# Altium integrated library Maxim_Integrated.IntLib: 4 symbols
Pins are listed as number, name and electrical type; pins without a type are passive.

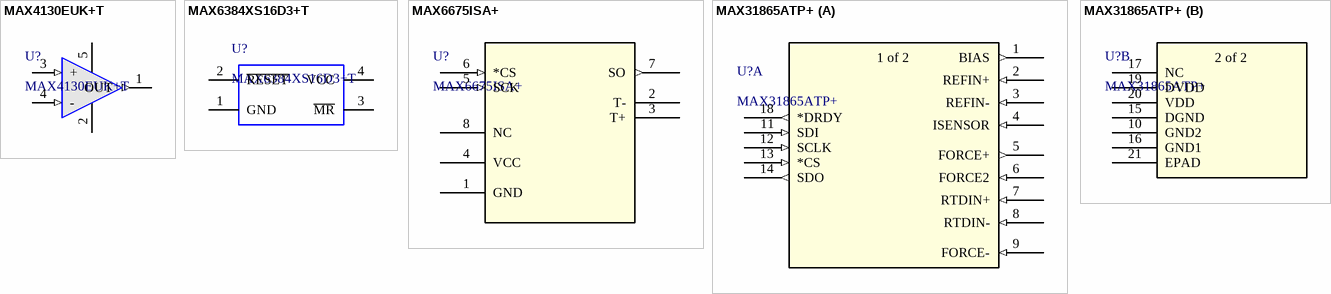
[diagram p0: symbols MAX4130EUK+T to MAX31865ATP+]

## MAX4130EUK+T
designator U?
Single/Dual/Quad, Wide-Bandwidth, Low-Power, / Single-Supply, Rail-to-Rail I/O Op Amps; SourceLibrary: Maxim_2014-06-20; Built_By: EMA_UL_Team; Vendor: Maxim Integrated Products; Revised By: Z_xiao; Manufacturer_Part_Number: MAX4130EUK+T; Copyright: Copyright (C) 2018 Accelerated Designs. All rights reserved; RefDes: RefDes; Type: DEV; ComponentLink1Description: Datasheet; ComponentLink1URL: https://datasheets.maximintegrated.com/en/ds/MAX4130-MAX4134.pdf
footprint 21-0057F_MXM
footprint 21-0057F_MXM-L
footprint 21-0057F_MXM-M
pins: 1 OUT (out), 2 VEE (power), 3 + (in), 4 - (in), 5 VCC (power)

## MAX6384XS16D3+T
designator U?
SC70/μDFN, Single/Dual Low-Voltage, / Low-Power μP Reset Circuits; Mfr_Name: Maxim Integrated Products; Revised By: Z_xiao; Copyright: Copyright (C) 2022 Ultra Librarian. All rights reserved.; Manufacturer_Part_Number: MAX6384XS16D3+T; RefDes: RefDes; Type: DEV; ComponentLink1Description: Datasheet; ComponentLink1URL: https://datasheets.maximintegrated.com/en/ds/MAX6381-MAX6390.pdf
footprint 21-0098_X4+1_MXM
footprint 21-0098_X4+1_MXM-L
footprint 21-0098_X4+1_MXM-M
pins: 1 GND, 2 ~{RESET}, 3 ~{MR}, 4 VCC

## MAX6675ISA+
designator U?
No Description Available; SourceLibrary: Maxim_2011-05-13; Built_By: EMA_UL_Team; Vendor: Maxim Integrated Products; Revised By: Z_xiao; Revision: 3; Manufacturer_Part_Number: MAX6675ISA+; Copyright: Copyright (C) 2018 Accelerated Designs. All rights reserved; RefDes: RefDes; Type: DEV; ComponentLink1Description: Datasheet; ComponentLink1URL: https://datasheets.maximintegrated.com/en/ds/MAX6675.pdf
footprint 21-0041B_8_MXM
footprint 21-0041B_8_MXM-L
footprint 21-0041B_8_MXM-M
pins: 1 GND (power), 2 T-, 3 T+, 4 VCC (power), 5 SCK (in), 6 *CS (in), 7 SO (out), 8 NC

## MAX31865ATP+
designator U?
RTD-to-Digital Converter; SourceLibrary: Update_to_database_2021-01-29; Built_By: EMA_UL_Team; Vendor: Maxim Integrated Products; Revised By: Z_xiao; Revision: 3; Manufacturer_Part_Number: MAX31865ATP+; Copyright: Copyright (C) 2018 Accelerated Designs. All rights reserved; RefDes: RefDes; Type: DEV; ComponentLink1Description: Datasheet; ComponentLink1URL: https://datasheets.maximintegrated.com/en/ds/MAX31865.pdf
footprint 21-0140_T2055+5_MXM
footprint 21-0140_T2055+5_MXM-M
footprint 21-0140_T2055+5_MXM-L
part A pins: 1 BIAS (out), 2 REFIN+ (in), 3 REFIN- (in), 4 ISENSOR (in), 5 FORCE+ (out), 6 FORCE2 (in), 7 RTDIN+ (in), 8 RTDIN- (in), 9 FORCE- (in), 11 SDI (in), 12 SCLK (in), 13 *CS (in), 14 SDO (out), 18 *DRDY (out)
part B pins: 10 GND2 (power), 15 DGND (power), 16 GND1 (power), 17 NC, 19 DVDD (power), 20 VDD (power), 21 EPAD
part A text: 1 of 2
part B text: 2 of 2